# Altium footprint library HDRV2W66P0X254_1X2_508X254X864P.PcbLib: 1 footprints
Each footprint in its own frame and in the unit in brackets; x right, y up, seen from the top. Pads: shape width x height; smd on the part's side, far side on the other; paste and mask are expansions set on the pad; w line width, h text height; cw(c..) or ccw(c..) is an arc to the next point about the centre after c.
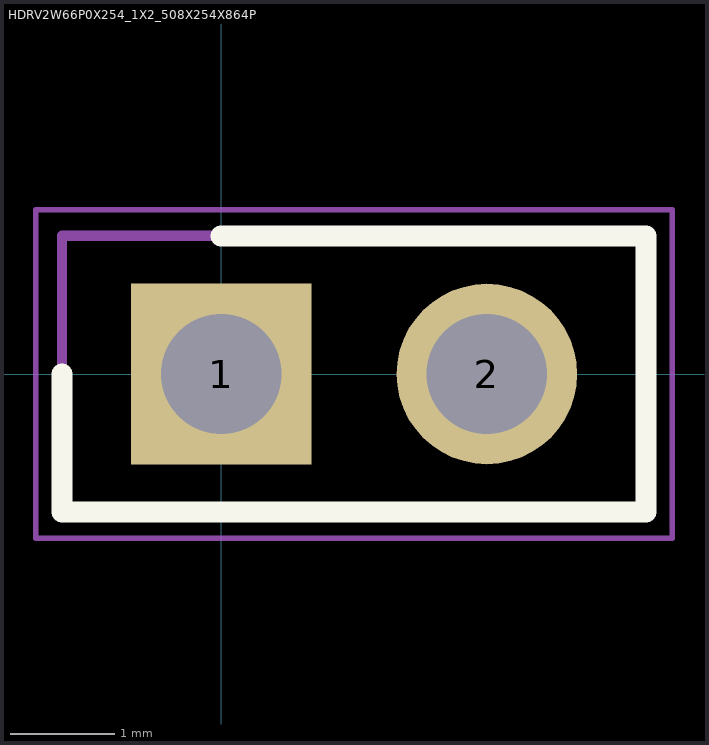
[diagram p0: the footprint, top view; thin cyan lines are the x and y axes]

## HDRV2W66P0X254_1X2_508X254X864P [mm]
pads (2):
  rect 1.725x1.725 / inner round 1.725 / far side rect 1.725x1.725 hole 1.15: 1(0,0)
  round 1.725 hole 1.15: 2(2.54,0)
Top Overlay:
  lines w0.2: -1.52,0 -1.52,-1.32 4.06,-1.32 4.06,1.32 0,1.32
Mechanical 15:
  lines w0.1: -1.52,-1.32 -1.52,1.32 4.06,1.32 4.06,-1.32 -1.52,-1.32
Mechanical 20:
  lines w0.05: -1.77,-1.57 -1.77,1.57 4.31,1.57 4.31,-1.57 -1.77,-1.57